# EAGLE library part PLRT833 (library logick)
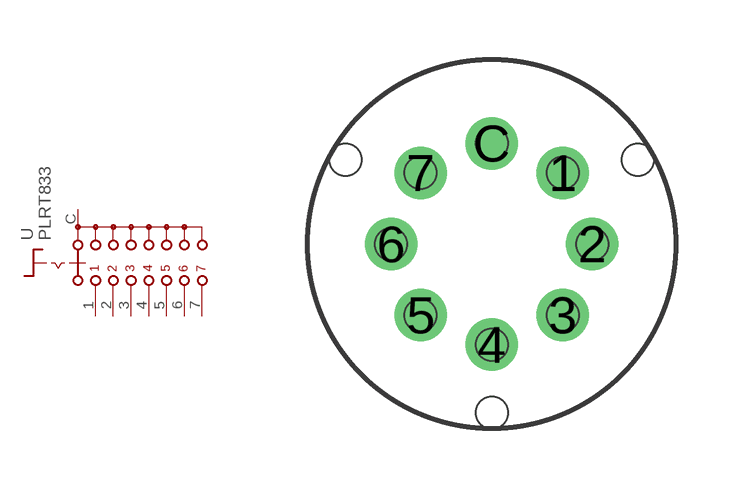
[diagram p6: symbol with the pads of PLRT; footprint PLRT]

Designator prefix -

## PLRT833  [PLRT]
1  1  pas
2  2  pas
3  3  pas
4  4  pas
5  5  pas
6  6  pas
7  7  pas
C  C  pas

## Footprint PLRT (pad centres in mm)
drill 0.8: 1 1.778,1.778; 2 2.515,0; 3 1.778,-1.778; 4 0,-2.515; 5 -1.778,-1.778; 6 -2.515,0; 7 -1.778,1.778; C 0,2.515
hole 0.8 at 2.515,0
hole 0.8 at 0,2.515
hole 0.8 at -2.515,0
hole 0.8 at 0,-2.515
hole 0.8 at -1.778,1.778
hole 0.8 at 1.778,1.778
hole 0.8 at 1.778,-1.778
hole 0.8 at -1.778,-1.778
hole 0.8 at 0,-4.22
hole 0.8 at 3.655,2.11
hole 0.8 at -3.655,2.11